# Altium footprint library SECF_Contact_Fingers.PCBLIB: 1 footprints
Each footprint in its own frame and in the unit in brackets; x right, y up, seen from the top. Pads: shape width x height; smd on the part's side, far side on the other; paste and mask are expansions set on the pad; w line width, h text height; cw(c..) or ccw(c..) is an arc to the next point about the centre after c.
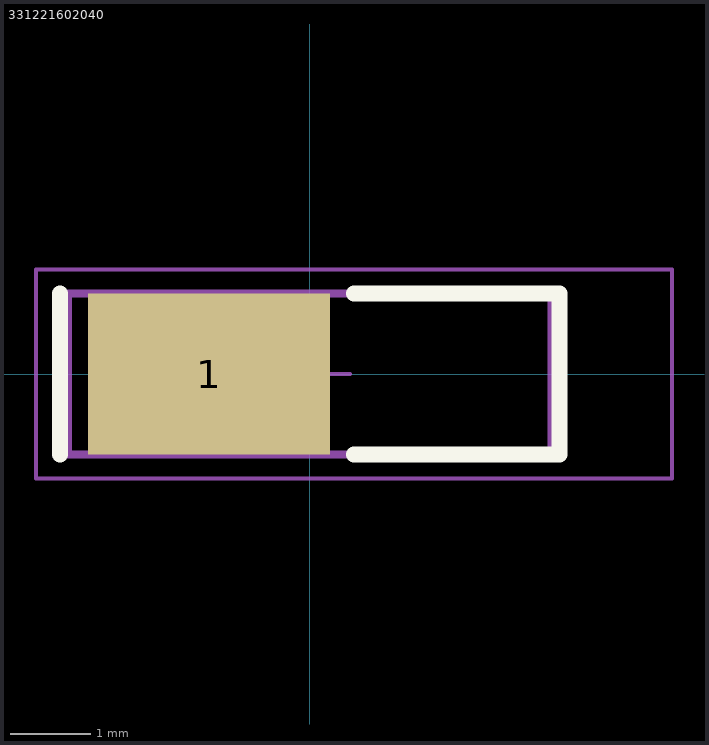
[diagram p0: the footprint, top view; thin cyan lines are the x and y axes]

## 331221602040 [mm] "SMD EMI Contact Finger, 6x2mm"
height 4.2
pads (1):
  rect 3x2 smd: 1(-1.25,0)
Top Overlay:
  lines w0.2: -3.1,-1 -3.1,1 ; 0.55,-1 3.1,-1 3.1,1 0.55,1
Top Assembly:
  lines w0.1: -3,-1 -3,1 3,1 3,-1 -3,-1
Top Courtyard:
  lines w0.05: -3.4,-1.3 -3.4,1.3 4.5,1.3 4.5,-1.3 -3.4,-1.3
Top Designator:
  text ".Designator" at -1.7,-0.4 h1
Top Component Center:
  lines w0.05: -0.5,0 0.5,0 ; 0,-0.5 0,0.5
3D body "331221602040.stp": height 4, standoff 0, extent -2.995,-1 2.995,1